# Altium schematic symbol library MCU_Microchip_PIC10.SchLib: 24 symbols
Pins are listed as number, name and electrical type; pins without a type are passive.

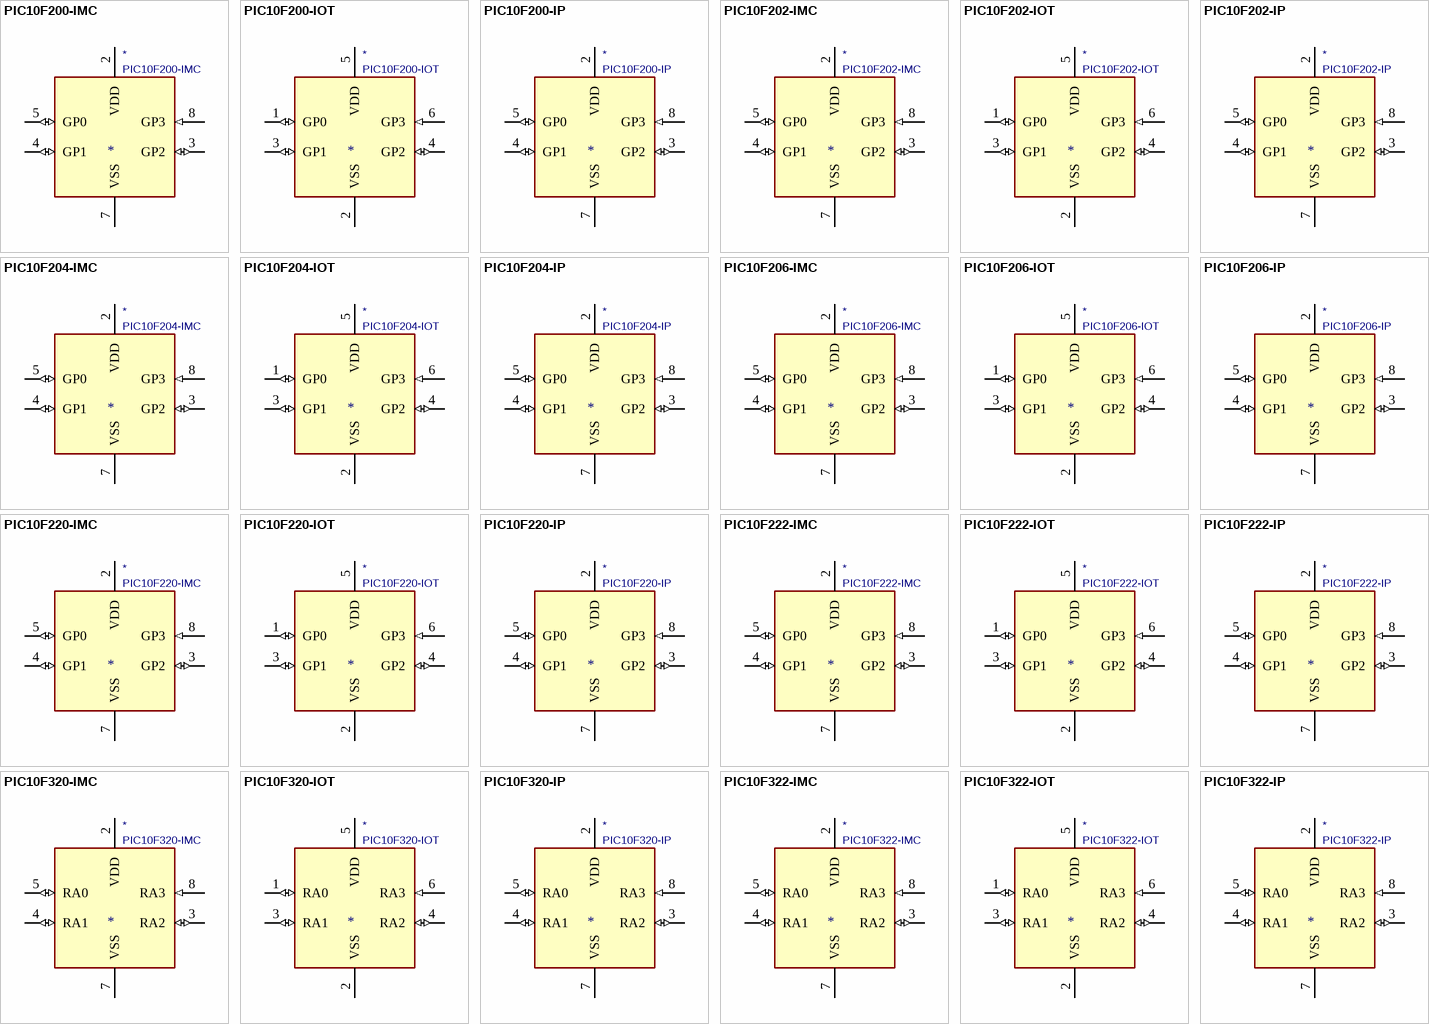
[diagram p0: symbols PIC10F200-IMC to PIC10F322-IP]

## PIC10F200-IMC
designator *  value PIC10F200-IMC
ki_keywords: FLASH 8-Bit CMOS Microcontroller; ki_description: 256W Flash, 16B SRAM, DFN8; ki_fp_filters: DFN*8*1EP*2x3mm*P0.5mm*; Footprint: Package_DFN_QFN:DFN-8-1EP_2x3mm_P0.5mm_EP0.61x2.2mm; Supplier: http://ww1.microchip.com/downloads/en/DeviceDoc/41239D.pdf
footprint DFN-8-1EP_2x3mm_P0.5mm_EP0.61x2.2mm
pins: 2 VDD (power), 3 GP2 (io), 4 GP1 (io), 5 GP0 (io), 7 VSS (power), 8 GP3 (in)

## PIC10F200-IOT
designator *  value PIC10F200-IOT
ki_keywords: FLASH 8-Bit CMOS Microcontroller; ki_description: 256W Flash, 16B SRAM, SOT-23-6; ki_fp_filters: SOT*23*6*; Footprint: Package_TO_SOT_SMD:SOT-23-6; Supplier: http://ww1.microchip.com/downloads/en/DeviceDoc/41239D.pdf
footprint SOT-23-6
pins: 1 GP0 (io), 2 VSS (power), 3 GP1 (io), 4 GP2 (io), 5 VDD (power), 6 GP3 (in)

## PIC10F200-IP
designator *  value PIC10F200-IP
ki_keywords: FLASH 8-Bit CMOS Microcontroller; ki_description: 256W Flash, 16B SRAM, PDIP8; ki_fp_filters: DIP*8*W7.62mm*; Footprint: Package_DIP:DIP-8_W7.62mm; Supplier: http://ww1.microchip.com/downloads/en/DeviceDoc/41239D.pdf
footprint DIP-8_W7.62mm
pins: 2 VDD (power), 3 GP2 (io), 4 GP1 (io), 5 GP0 (io), 7 VSS (power), 8 GP3 (in)

## PIC10F202-IMC
designator *  value PIC10F202-IMC
ki_keywords: FLASH 8-Bit CMOS Microcontroller; ki_description: 512W Flash, 24B SRAM, DFN8; ki_fp_filters: DFN*8*1EP*2x3mm*P0.5mm*; Footprint: Package_DFN_QFN:DFN-8-1EP_2x3mm_P0.5mm_EP0.61x2.2mm; Supplier: http://ww1.microchip.com/downloads/en/DeviceDoc/41239D.pdf
footprint DFN-8-1EP_2x3mm_P0.5mm_EP0.61x2.2mm
pins: 2 VDD (power), 3 GP2 (io), 4 GP1 (io), 5 GP0 (io), 7 VSS (power), 8 GP3 (in)

## PIC10F202-IOT
designator *  value PIC10F202-IOT
ki_keywords: FLASH 8-Bit CMOS Microcontroller; ki_description: 512W Flash, 24B SRAM, SOT-23-6; ki_fp_filters: SOT*23*6*; Footprint: Package_TO_SOT_SMD:SOT-23-6; Supplier: http://ww1.microchip.com/downloads/en/DeviceDoc/41239D.pdf
footprint SOT-23-6
pins: 1 GP0 (io), 2 VSS (power), 3 GP1 (io), 4 GP2 (io), 5 VDD (power), 6 GP3 (in)

## PIC10F202-IP
designator *  value PIC10F202-IP
ki_keywords: FLASH 8-Bit CMOS Microcontroller; ki_description: 512W Flash, 24B SRAM, PDIP8; ki_fp_filters: DIP*8*W7.62mm*; Footprint: Package_DIP:DIP-8_W7.62mm; Supplier: http://ww1.microchip.com/downloads/en/DeviceDoc/41239D.pdf
footprint DIP-8_W7.62mm
pins: 2 VDD (power), 3 GP2 (io), 4 GP1 (io), 5 GP0 (io), 7 VSS (power), 8 GP3 (in)

## PIC10F204-IMC
designator *  value PIC10F204-IMC
ki_keywords: FLASH 8-Bit CMOS Microcontroller; ki_description: 256W Flash, 16B SRAM, DFN8; ki_fp_filters: DFN*8*1EP*2x3mm*P0.5mm*; Footprint: Package_DFN_QFN:DFN-8-1EP_2x3mm_P0.5mm_EP0.61x2.2mm; Supplier: http://ww1.microchip.com/downloads/en/DeviceDoc/41239D.pdf
footprint DFN-8-1EP_2x3mm_P0.5mm_EP0.61x2.2mm
pins: 2 VDD (power), 3 GP2 (io), 4 GP1 (io), 5 GP0 (io), 7 VSS (power), 8 GP3 (in)

## PIC10F204-IOT
designator *  value PIC10F204-IOT
ki_keywords: FLASH 8-Bit CMOS Microcontroller; ki_description: 256W Flash, 16B SRAM, SOT-23-6; ki_fp_filters: SOT*23*6*; Footprint: Package_TO_SOT_SMD:SOT-23-6; Supplier: http://ww1.microchip.com/downloads/en/DeviceDoc/41239D.pdf
footprint SOT-23-6
pins: 1 GP0 (io), 2 VSS (power), 3 GP1 (io), 4 GP2 (io), 5 VDD (power), 6 GP3 (in)

## PIC10F204-IP
designator *  value PIC10F204-IP
ki_keywords: FLASH 8-Bit CMOS Microcontroller; ki_description: 256W Flash, 16B SRAM, PDIP8; ki_fp_filters: DIP*8*W7.62mm*; Footprint: Package_DIP:DIP-8_W7.62mm; Supplier: http://ww1.microchip.com/downloads/en/DeviceDoc/41239D.pdf
footprint DIP-8_W7.62mm
pins: 2 VDD (power), 3 GP2 (io), 4 GP1 (io), 5 GP0 (io), 7 VSS (power), 8 GP3 (in)

## PIC10F206-IMC
designator *  value PIC10F206-IMC
ki_keywords: FLASH 8-Bit CMOS Microcontroller; ki_description: 512W Flash, 24B SRAM, DFN8; ki_fp_filters: DFN*8*1EP*2x3mm*P0.5mm*; Footprint: Package_DFN_QFN:DFN-8-1EP_2x3mm_P0.5mm_EP0.61x2.2mm; Supplier: http://ww1.microchip.com/downloads/en/DeviceDoc/41239D.pdf
footprint DFN-8-1EP_2x3mm_P0.5mm_EP0.61x2.2mm
pins: 2 VDD (power), 3 GP2 (io), 4 GP1 (io), 5 GP0 (io), 7 VSS (power), 8 GP3 (in)

## PIC10F206-IOT
designator *  value PIC10F206-IOT
ki_keywords: FLASH 8-Bit CMOS Microcontroller; ki_description: 512W Flash, 24B SRAM, SOT-23-6; ki_fp_filters: SOT*23*6*; Footprint: Package_TO_SOT_SMD:SOT-23-6; Supplier: http://ww1.microchip.com/downloads/en/DeviceDoc/41239D.pdf
footprint SOT-23-6
pins: 1 GP0 (io), 2 VSS (power), 3 GP1 (io), 4 GP2 (io), 5 VDD (power), 6 GP3 (in)

## PIC10F206-IP
designator *  value PIC10F206-IP
ki_keywords: FLASH 8-Bit CMOS Microcontroller; ki_description: 512W Flash, 24B SRAM, PDIP8; ki_fp_filters: DIP*8*W7.62mm*; Footprint: Package_DIP:DIP-8_W7.62mm; Supplier: http://ww1.microchip.com/downloads/en/DeviceDoc/41239D.pdf
footprint DIP-8_W7.62mm
pins: 2 VDD (power), 3 GP2 (io), 4 GP1 (io), 5 GP0 (io), 7 VSS (power), 8 GP3 (in)

## PIC10F220-IMC
designator *  value PIC10F220-IMC
ki_keywords: FLASH 8-Bit CMOS Microcontroller; ki_description: 256W Flash, 16B SRAM, DFN8; ki_fp_filters: DFN*8*1EP*2x3mm*P0.5mm*; Footprint: Package_DFN_QFN:DFN-8-1EP_2x3mm_P0.5mm_EP0.61x2.2mm; Supplier: http://ww1.microchip.com/downloads/en/DeviceDoc/41270E.pdf
footprint DFN-8-1EP_2x3mm_P0.5mm_EP0.61x2.2mm
pins: 2 VDD (power), 3 GP2 (io), 4 GP1 (io), 5 GP0 (io), 7 VSS (power), 8 GP3 (in)

## PIC10F220-IOT
designator *  value PIC10F220-IOT
ki_keywords: FLASH 8-Bit CMOS Microcontroller; ki_description: 256W Flash, 16B SRAM, SOT-23-6; ki_fp_filters: SOT*23*6*; Footprint: Package_TO_SOT_SMD:SOT-23-6; Supplier: http://ww1.microchip.com/downloads/en/DeviceDoc/41270E.pdf
footprint SOT-23-6
pins: 1 GP0 (io), 2 VSS (power), 3 GP1 (io), 4 GP2 (io), 5 VDD (power), 6 GP3 (in)

## PIC10F220-IP
designator *  value PIC10F220-IP
ki_keywords: FLASH 8-Bit CMOS Microcontroller; ki_description: 256W Flash, 16B SRAM, PDIP8; ki_fp_filters: DIP*8*W7.62mm*; Footprint: Package_DIP:DIP-8_W7.62mm; Supplier: http://ww1.microchip.com/downloads/en/DeviceDoc/41270E.pdf
footprint DIP-8_W7.62mm
pins: 2 VDD (power), 3 GP2 (io), 4 GP1 (io), 5 GP0 (io), 7 VSS (power), 8 GP3 (in)

## PIC10F222-IMC
designator *  value PIC10F222-IMC
ki_keywords: FLASH 8-Bit CMOS Microcontroller; ki_description: 512W Flash, 24B SRAM, DFN8; ki_fp_filters: DFN*8*1EP*2x3mm*P0.5mm*; Footprint: Package_DFN_QFN:DFN-8-1EP_2x3mm_P0.5mm_EP0.61x2.2mm; Supplier: http://ww1.microchip.com/downloads/en/DeviceDoc/41270E.pdf
footprint DFN-8-1EP_2x3mm_P0.5mm_EP0.61x2.2mm
pins: 2 VDD (power), 3 GP2 (io), 4 GP1 (io), 5 GP0 (io), 7 VSS (power), 8 GP3 (in)

## PIC10F222-IOT
designator *  value PIC10F222-IOT
ki_keywords: FLASH 8-Bit CMOS Microcontroller; ki_description: 512W Flash, 24B SRAM, SOT-23-6; ki_fp_filters: SOT*23*6*; Footprint: Package_TO_SOT_SMD:SOT-23-6; Supplier: http://ww1.microchip.com/downloads/en/DeviceDoc/41270E.pdf
footprint SOT-23-6
pins: 1 GP0 (io), 2 VSS (power), 3 GP1 (io), 4 GP2 (io), 5 VDD (power), 6 GP3 (in)

## PIC10F222-IP
designator *  value PIC10F222-IP
ki_keywords: FLASH 8-Bit CMOS Microcontroller; ki_description: 512W Flash, 24B SRAM, PDIP8; ki_fp_filters: DIP*8*W7.62mm*; Footprint: Package_DIP:DIP-8_W7.62mm; Supplier: http://ww1.microchip.com/downloads/en/DeviceDoc/41270E.pdf
footprint DIP-8_W7.62mm
pins: 2 VDD (power), 3 GP2 (io), 4 GP1 (io), 5 GP0 (io), 7 VSS (power), 8 GP3 (in)

## PIC10F320-IMC
designator *  value PIC10F320-IMC
ki_keywords: FLASH 8-Bit CMOS Microcontroller; ki_description: 256W Flash, 64B SRAM, DFN8; ki_fp_filters: Package*DFN*QFN:DFN*8*1EP*2x3mm*P0.5mm*; Footprint: Package_DFN_QFN:DFN-8-1EP_2x3mm_P0.5mm_EP0.61x2.2mm; Supplier: http://ww1.microchip.com/downloads/en/DeviceDoc/41585A.pdf
footprint DFN-8-1EP_2x3mm_P0.5mm_EP0.61x2.2mm
pins: 2 VDD (power), 3 RA2 (io), 4 RA1 (io), 5 RA0 (io), 7 VSS (power), 8 RA3 (in)

## PIC10F320-IOT
designator *  value PIC10F320-IOT
ki_keywords: FLASH 8-Bit CMOS Microcontroller; ki_description: 256W Flash, 64B SRAM, SOT-23-6; ki_fp_filters: SOT*23*6*; Footprint: Package_TO_SOT_SMD:SOT-23-6; Supplier: http://ww1.microchip.com/downloads/en/DeviceDoc/41585A.pdf
footprint SOT-23-6
pins: 1 RA0 (io), 2 VSS (power), 3 RA1 (io), 4 RA2 (io), 5 VDD (power), 6 RA3 (in)

## PIC10F320-IP
designator *  value PIC10F320-IP
ki_keywords: FLASH 8-Bit CMOS Microcontroller; ki_description: 256W Flash, 64B SRAM, PDIP8; ki_fp_filters: DIP*8*W7.62mm*; Footprint: Package_DIP:DIP-8_W7.62mm; Supplier: http://ww1.microchip.com/downloads/en/DeviceDoc/41585A.pdf
footprint DIP-8_W7.62mm
pins: 2 VDD (power), 3 RA2 (io), 4 RA1 (io), 5 RA0 (io), 7 VSS (power), 8 RA3 (in)

## PIC10F322-IMC
designator *  value PIC10F322-IMC
ki_keywords: FLASH 8-Bit CMOS Microcontroller; ki_description: 512W Flash, 64B SRAM, DFN8; ki_fp_filters: Package*DFN*QFN:DFN*8*1EP*2x3mm*P0.5mm*; Footprint: Package_DFN_QFN:DFN-8-1EP_2x3mm_P0.5mm_EP0.61x2.2mm; Supplier: http://ww1.microchip.com/downloads/en/DeviceDoc/41585A.pdf
footprint DFN-8-1EP_2x3mm_P0.5mm_EP0.61x2.2mm
pins: 2 VDD (power), 3 RA2 (io), 4 RA1 (io), 5 RA0 (io), 7 VSS (power), 8 RA3 (in)

## PIC10F322-IOT
designator *  value PIC10F322-IOT
ki_keywords: FLASH 8-Bit CMOS Microcontroller; ki_description: 512W Flash, 64B SRAM, SOT-23-6; ki_fp_filters: SOT*23*6*; Footprint: Package_TO_SOT_SMD:SOT-23-6; Supplier: http://ww1.microchip.com/downloads/en/DeviceDoc/41585A.pdf
footprint SOT-23-6
pins: 1 RA0 (io), 2 VSS (power), 3 RA1 (io), 4 RA2 (io), 5 VDD (power), 6 RA3 (in)

## PIC10F322-IP
designator *  value PIC10F322-IP
ki_keywords: FLASH 8-Bit CMOS Microcontroller; ki_description: 512W Flash, 64B SRAM, PDIP8; ki_fp_filters: DIP*8*W7.62mm*; Footprint: Package_DIP:DIP-8_W7.62mm; Supplier: http://ww1.microchip.com/downloads/en/DeviceDoc/41585A.pdf
footprint DIP-8_W7.62mm
pins: 2 VDD (power), 3 RA2 (io), 4 RA1 (io), 5 RA0 (io), 7 VSS (power), 8 RA3 (in)